# Altium footprint library C8T6核心板和lv8729.PcbLib: 48 footprints (part 3 of 3)
Each footprint in its own frame and in the unit in brackets; x right, y up, seen from the top. Pads: shape width x height; smd on the part's side, far side on the other; paste and mask are expansions set on the pad; w line width, h text height; cw(c..) or ccw(c..) is an arc to the next point about the centre after c.
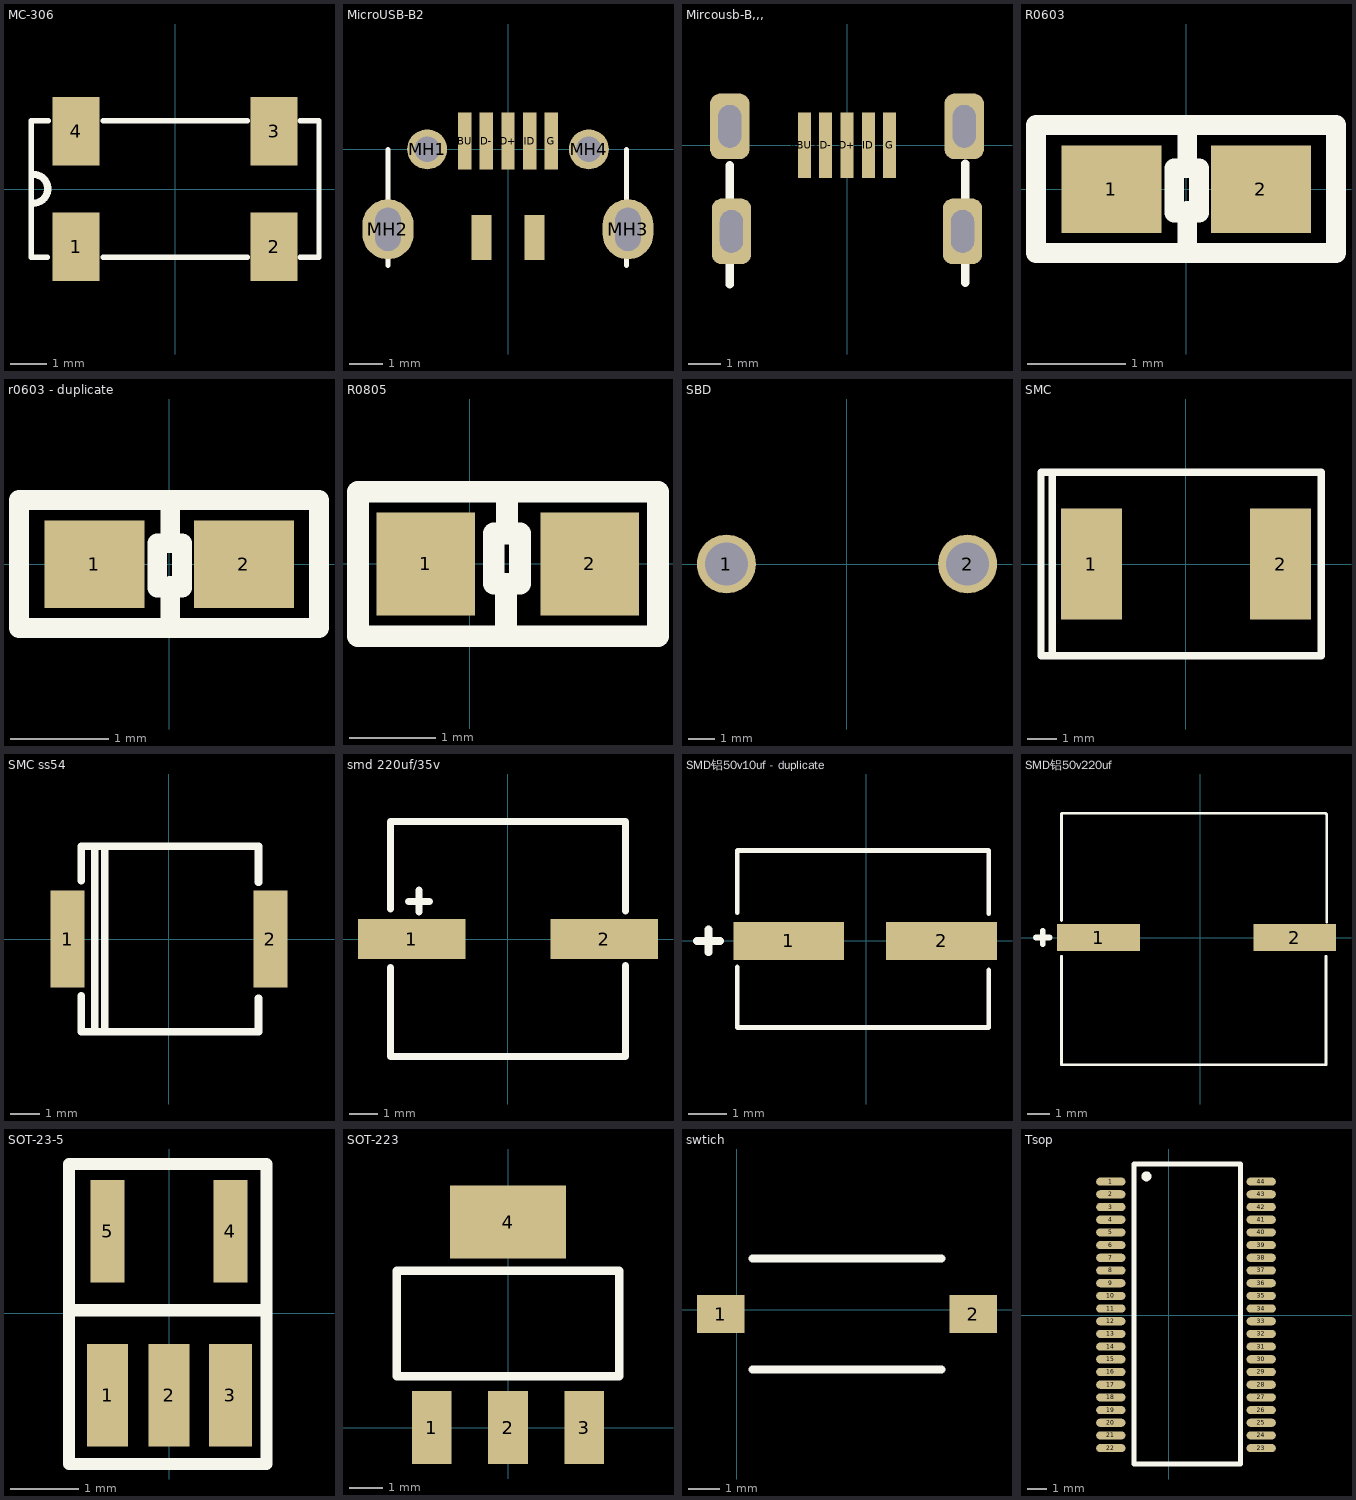
[diagram p2: the footprints below, top view; thin cyan lines are the x and y axes]

## MC-306 [mm]
height 1.6
pads (4):
  rect 1.3x1.9 smd: 1(-2.75,-1.6) 2(2.75,-1.6) 3(2.75,1.6) 4(-2.75,1.6)
Top Overlay:
  lines w0.152: -3.556,-1.9 -4,-1.9 -4,1.9 -3.531,1.9 ; -2,-1.9 2,-1.9 ; -2,1.9 2,1.9 ; 3.48,-1.9 4,-1.9 4,1.9 3.48,1.9
  lines w0.2: -3.937,-0.394 ccw(c-3.937,0.006) -3.937,0.406

## MicroUSB-B2 [mm]
height 1.05
pads (11):
  rect 0.4x1.7 smd: D+(0,0.25) D-(-0.65,0.25) G(1.3,0.25) ID(0.65,0.25) VBUS(-1.3,0.25)
  round 1.2 hole 0.762: MH1(-2.425,0) MH4(2.425,0)
  oval 1.54x1.8 hole 0.762 slot 1.3 at 90 deg: MH2(-3.6,-2.4)
  oval 1.524x1.8 hole 0.762 slot 1.3 at 90 deg: MH3(3.6,-2.4)
  rect 0.6x1.35 smd: ""(-0.8,-2.65) ""(0.8,-2.65)
Top Overlay:
  lines w0.152: -3.606,-3.48 -3.6,0 ; 3.556,0 3.557,-3.48

## Mircousb-B,,, [mm] "自己买的"
pads (9):
  rect 0.4x2 smd: D+(0,0) D-(-0.65,0) G(1.3,0) ID(0.65,0) VBUS(-1.3,0)
  rrect50% 1.2x2 hole 0.7 slot 1.3 at 90 deg: ""(-3.57,0.575) ""(-3.52,-2.625) ""(3.52,-2.625) ""(3.57,0.575)
Top Overlay:
  lines w0.254: -3.57,-4.242 -3.57,-0.61 ; 3.607,-4.191 3.607,-0.559

## R0603 [mil]
height 170.08
pads (2):
  rect 40x35 smd: 1(-29.92,0) 2(29.92,0)
Top Overlay:
  lines w7.87: 0.39,-21.65 0.39,-8.66 ; 0.39,9.45 0.39,21.65 ; -60.07,-25.59 59.93,-25.59 59.93,25.59 -60.07,25.59 -60.07,-25.59 ; -4.72,-9.45 -4.72,8.27 5.12,8.27 5.12,-9.45 -4.72,-9.45

## r0603 - duplicate [mil]
pads (2):
  rect 40x35 smd: 1(-29.92,0) 2(29.92,0)
Top Overlay:
  lines w7.87: 0.39,-21.65 0.39,-8.66 ; 0.39,9.45 0.39,21.65 ; -60.07,-25.59 59.93,-25.59 59.93,25.59 -60.07,25.59 -60.07,-25.59 ; -4.72,-9.45 -4.72,8.27 5.12,8.27 5.12,-9.45 -4.72,-9.45

## R0805 [mm]
pads (2):
  rect 1.14x1.2 smd: 1(-0.508,0) 2(1.392,0)
Top Overlay:
  lines w0.254: 0.419,-0.838 0.419,-0.368 ; 0.432,0.838 0.432,0.356 0.279,0.356 0.279,-0.229 0.584,-0.229 0.584,0.356 ; -1.295,-0.838 -1.295,0.838 2.134,0.838 2.184,0.838 2.184,-0.838 -1.295,-0.838

## SBD [mm] "用于1n5824"
pads (2):
  round 2.2 hole 1.6: 1(-4.5,0) 2(4.5,0)

## SMC [mm] "用于ss34"
pads (2):
  rect 2.1x3.8 smd: 1(-3.25,0) 2(3.25,0)
Top Overlay:
  lines w0.254: -4.597,-3.15 -4.597,3.15 ; -4.978,-3.15 -4.978,3.15 4.648,3.15 4.648,-3.15 -4.978,-3.15

## SMC ss54 [mm]
pads (2):
  rect 1.14x3.25 smd: 1(-3.4,0) 2(3.4,0)
Top Overlay:
  lines w0.254: -2.946,-1.905 -2.946,-3.11 -1.372,-3.11 0,-3.11 2.997,-3.11 2.997,-1.981 ; -2.946,1.956 -2.946,3.11 0,3.11 1.372,3.11 2.997,3.11 2.997,1.905 ; -2.489,-3.073 -2.489,3.11 ; -2.159,-3.11 -2.159,3.11

## smd 220uf/35v [mm]
pads (2):
  rect 3.8x1.4 smd: 1(-3.4,0) 2(3.4,0)
Top Overlay:
  lines w0.254: -4.15,-1.016 -4.15,-4.15 -0.762,-4.15 0,-4.15 4.15,-4.15 4.15,-0.94 ; -4.15,1.067 -4.15,4.15 0,4.15 0.762,4.15 4.15,4.15 4.15,0.991 ; -3.505,1.321 -2.769,1.321 ; -3.15,0.965 -3.15,1.727

## SMD铝50v10uf - duplicate [mm]
pads (2):
  rect 2.9x1 smd: 1(-2.032,0) 2(1.968,0)
Top Overlay:
  lines w0.127: -3.378,-0.686 -3.378,-2.261 3.2,-2.261 3.2,-0.762 ; -3.378,0.737 -3.378,2.362 3.2,2.362 3.2,0.711
  lines w0.2: -4.432,0 -3.832,0 ; -4.132,-0.3 -4.132,0.3

## SMD铝50v220uf [mm]
pads (2):
  rect 3.7x1.2 smd: 1(-4.54,0) 2(4.23,0)
Top Overlay:
  lines w0.127: -6.198,-0.838 -6.198,-5.69 5.639,-5.69 5.639,-0.838 ; -6.198,0.762 -6.198,5.537 -6.172,5.563 5.613,5.563 5.664,5.512 5.664,0.686
  lines w0.254: -7.34,0 -6.74,0 ; -7.04,-0.3 -7.04,0.3

## SOT-23-5 [mm]
height 4.32
pads (5):
  rect 0.6x1.5 smd: 1(-0.9,-1.2) 2(0,-1.2)
  rect 0.63x1.5 smd: 3(0.9,-1.2)
  rect 0.5x1.5 smd: 4(0.9,1.2) 5(-0.9,1.2)
Top Overlay:
  lines w0.178: -1.466,0.041 1.43,0.041 ; -1.466,-2.21 1.43,-2.21 1.43,2.184 -1.466,2.184 -1.466,-2.21

## SOT-223 [mm] "用于AMS1117-3.3"
pads (4):
  rect 1.2x2.2 smd: 1(-2.3,0) 2(0,0) 3(2.3,0)
  rect 3.5x2.2 smd: 4(0,6.2)
Top Overlay:
  lines w0.254: -3.35,1.549 -1.981,1.549 1.88,1.549 3.35,1.549 3.35,4.039 3.35,4.724 1.372,4.724 -1.905,4.724 -3.35,4.724 -3.35,4.242 -3.35,2.032 -3.35,1.549

## swtich [mm]
pads (2):
  rect 1.5x1.2 smd: 1(-0.508,-0.127) 2(7.492,-0.127)
Top Overlay:
  lines w0.254: 0.492,-1.877 6.492,-1.877 ; 0.492,1.623 6.492,1.623

## Tsop [mm] "lv8729 44_pin 0.65mm"
pads (44):
  oval 1.5x0.42 smd: 1(-2.967,6.843) 2(-2.967,6.193) 3(-2.967,5.543) 4(-2.967,4.893) 5(-2.967,4.243) 6(-2.967,3.593) 7(-2.967,2.943) 8(-2.967,2.293) 9(-2.967,1.643) 10(-2.967,0.993) 11(-2.967,0.343) 12(-2.967,-0.307) 13(-2.967,-0.957) 14(-2.967,-1.607) 15(-2.967,-2.257) 16(-2.967,-2.907) 17(-2.967,-3.557) 18(-2.967,-4.207) 19(-2.967,-4.857) 20(-2.967,-5.507) 21(-2.967,-6.157) 22(-2.967,-6.807) 23(4.733,-6.807) 24(4.733,-6.157) 25(4.733,-5.507) 26(4.733,-4.857) 27(4.733,-4.207) 28(4.733,-3.557) 29(4.733,-2.907) 30(4.733,-2.257) 31(4.733,-1.607) 32(4.733,-0.957) 33(4.733,-0.307) 34(4.733,0.343) 35(4.733,0.993) 36(4.733,1.643) 37(4.733,2.293) 38(4.733,2.943) 39(4.733,3.593) 40(4.733,4.243) 41(4.733,4.893) 42(4.733,5.543) 43(4.733,6.193) 44(4.733,6.843)
Top Overlay:
  circle w0.254: c-1.143,7.112 r0.127
  lines w0.254: -1.778,-7.62 3.683,-7.62 3.683,7.747 -1.778,7.747 -1.778,-7.62